# Altium integrated library Resonators.IntLib: 6 symbols
Pins are listed as number, name and electrical type; pins without a type are passive.

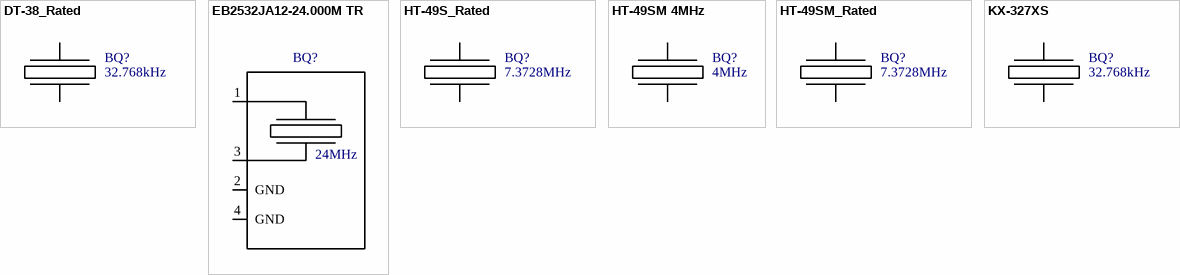
[diagram p0: symbols DT-38_Rated to KX-327XS]

## DT-38_Rated
designator BQ?  value 32.768kHz  (hidden comment: *)
1Ccode: *; 1Cname: *; 1CfullName: *; 1Cgroup: *; 1Carticle: *; Manufacturer: *; Name: *; PartNumber: *; Case: *; ComponentLink1Description: DatasheetLink; ComponentLink1URL: *; Tolerance: *; Frequency: *
footprint DT-38 w/pad (Crystal Resonator)
footprint DT-38 w/o pad (Crystal Resonator)
pins: 1, 2

## EB2532JA12-24.000M TR
designator BQ?  value 24MHz  (hidden comment: *)
footprint EB2532 (EB2532 Series Quartz Crystal Resonator 2.5mm x 3.2mm)
pins: 1 C1, 2 GND, 3 C2, 4 GND

## HT-49S_Rated
designator BQ?  value 7.3728MHz  (hidden comment: *)
1Ccode: *; 1Cname: *; 1CfullName: *; 1Cgroup: *; 1Carticle: *; Manufacturer: *; Name: *; PartNumber: *; Case: *; Tolerance: *; ComponentLink1Description: DatasheetLink; ComponentLink1URL: *; Frequency: *
footprint HT-49S (TH Crystal)
pins: 1, 2

## HT-49SM 4MHz
designator BQ?  value 4MHz  (hidden comment: *)
1Ccode: М00046484; 1Cname: Резонатор кварцевый HC-49SM 4.000 MHz; 1Cgroup: 01010603; 1Carticle: 35161; Name: Резонатор кварцевый HC-49SM 4 МГц; 1CfullName: Резонатор кварцевый HC-49SM 4.000 MHz; Manufacturer: *; PartNumber: *; Case: HC-49SM; Tolerance: *; ComponentLink1Description: DatasheetLink; ComponentLink1URL: *; Frequency: 4MHz
footprint HT-49SM (SMD Crystal)
pins: 1, 2

## HT-49SM_Rated
designator BQ?  value 7.3728MHz  (hidden comment: *)
1Ccode: *; 1Cname: *; 1CfullName: *; 1Cgroup: *; 1Carticle: *; Manufacturer: *; Name: *; PartNumber: *; Case: *; Tolerance: *; ComponentLink1Description: DatasheetLink; ComponentLink1URL: *; Frequency: *
footprint HT-49SM (SMD Crystal)
pins: 1, 2

## KX-327XS
designator BQ?  value 32.768kHz  (hidden comment: *)
Manufacturer: Geyer; 1Ccode: М00027734; 1Cname: Резонатор кварцевый KX-327XS 32.768КГц ( 12,87126); 1Cgroup: 01010603; 1Carticle: 16289; Name: Резонатор кварцевый KX-327XS 32.768 кГц; 1CfullName: Резонатор кварцевый KX-327XS 32.768КГц ( 12,87126); PartNumber: *; Case: *; ComponentLink1Description: DatasheetLink; ComponentLink1URL: *; Tolerance: *; Frequency: 32.768kHz
footprint KX-327XS (KX-327XS Series Quartz Crystal Resonator 5.0mm x 1.8mm)
pins: 1, 2